# Altium footprint library bc95+sim pack.PcbLib: 1 footprints
Each footprint in its own frame and in the unit in brackets; x right, y up, seen from the top. Pads: shape width x height; smd on the part's side, far side on the other; paste and mask are expansions set on the pad; w line width, h text height; cw(c..) or ccw(c..) is an arc to the next point about the centre after c.
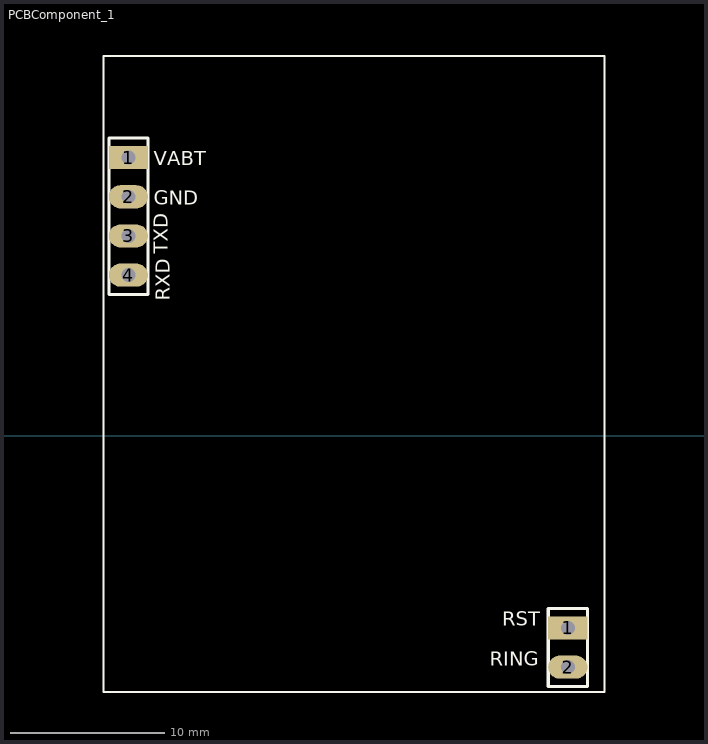
[diagram p0: the footprint, top view; thin cyan lines are the x and y axes]

## PCBComponent_1 [mil]
pads (6):
  rect 100x59.06 hole 35.43: 1(464,710) 1(1586,-491)
  oval 100x59.06 hole 35.43: 2(464,610) 2(1586,-591) 3(464,510) 4(464,410)
Top Overlay:
  lines w5: 400,-655 1680,-655 1680,970 400,970 400,-655
  lines w7.87: 414,360 414,760 514,760 514,360 414,360 ; 1536,-641 1636,-641 1636,-441 1536,-441 1536,-641
  text "VABT" at 529,690 h36
  text "GND" at 529,590 h36
  text "TXD" at 564,465 h36
  text "RXD" at 569,345 h36
  text "RST" at 1418,-486 h36
  text "RING" at 1387,-588 h36